# Altium schematic symbol library LMR51625XFDDCR.SchLib: 2 symbols
Pins are listed as number, name and electrical type; pins without a type are passive.

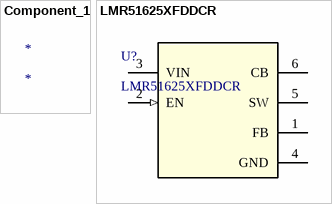
[diagram p0: symbols Component_1 to LMR51625XFDDCR]

## Component_1
designator *

## LMR51625XFDDCR
designator U?
SIMPLE SWITCHERÂ® synchronous buck converter with 4.3V-to-60V, 2.5A and low quiescent current 6-SOT-23-THIN -40 to 150; Manufacturer_Name: Texas Instruments; TYPE: TYPE; RefDes: RefDes; Copyright: Copyright (C) 2025 Ultra Librarian. All rights reserved.; Manufacturer_Part_Number: LMR51625XFDDCR; Datasheet: https://www.ti.com/lit/gpn/lmr51625
footprint DDC0006A-MFG
pins: 1 FB, 2 EN (in), 3 VIN (power), 4 GND (power), 5 SW, 6 CB